# Altium footprint library Small Outline (~0.8mm Pitch).PcbLib: 18 footprints (part 2 of 2)
Each footprint in its own frame and in the unit in brackets; x right, y up, seen from the top. Pads: shape width x height; smd on the part's side, far side on the other; paste and mask are expansions set on the pad; w line width, h text height; cw(c..) or ccw(c..) is an arc to the next point about the centre after c.
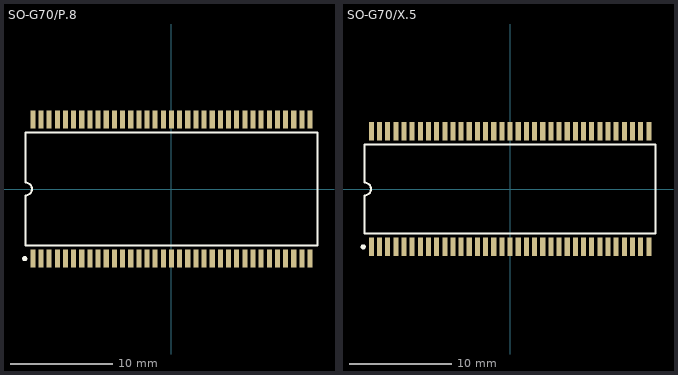
[diagram p1: the footprints below, top view; thin cyan lines are the x and y axes]

## SO-G70/P.8 [mm] "Small Outline; 70 Leads; Body Width 12.7 mm; Pitch 0.8 mm"
height 1.2
pads (70):
  rect 0.5x1.75 smd: 1(-13.6,-6.825) 2(-12.8,-6.825) 3(-12,-6.825) 4(-11.2,-6.825) 5(-10.4,-6.825) 6(-9.6,-6.825) 7(-8.8,-6.825) 8(-8,-6.825) 9(-7.2,-6.825) 10(-6.4,-6.825) 11(-5.6,-6.825) 12(-4.8,-6.825) 13(-4,-6.825) 14(-3.2,-6.825) 15(-2.4,-6.825) 16(-1.6,-6.825) 17(-0.8,-6.825) 18(0,-6.825) 19(0.8,-6.825) 20(1.6,-6.825) 21(2.4,-6.825) 22(3.2,-6.825) 23(4,-6.825) 24(4.8,-6.825) 25(5.6,-6.825) 26(6.4,-6.825) 27(7.2,-6.825) 28(8,-6.825) 29(8.8,-6.825) 30(9.6,-6.825) 31(10.4,-6.825) 32(11.2,-6.825) 33(12,-6.825) 34(12.8,-6.825) 35(13.6,-6.825) 36(13.6,6.825) 37(12.8,6.825) 38(12,6.825) 39(11.2,6.825) 40(10.4,6.825) 41(9.6,6.825) 42(8.8,6.825) 43(8,6.825) 44(7.2,6.825) 45(6.4,6.825) 46(5.6,6.825) 47(4.8,6.825) 48(4,6.825) 49(3.2,6.825) 50(2.4,6.825) 51(1.6,6.825) 52(0.8,6.825) 53(0,6.825) 54(-0.8,6.825) 55(-1.6,6.825) 56(-2.4,6.825) 57(-3.2,6.825) 58(-4,6.825) 59(-4.8,6.825) 60(-5.6,6.825) 61(-6.4,6.825) 62(-7.2,6.825) 63(-8,6.825) 64(-8.8,6.825) 65(-9.6,6.825) 66(-10.4,6.825) 67(-11.2,6.825) 68(-12,6.825) 69(-12.8,6.825) 70(-13.6,6.825)
Top Overlay:
  circle w0.25: c-14.4,-6.825 r0.125
  lines w0.2: -14.325,-5.55 14.325,-5.55 14.325,5.55 -14.325,5.55 -14.325,0.635 cw(c-14.325,0) -14.325,-0.635 -14.325,-5.55

## SO-G70/X.5 [mm] "Small Outline; 70 Leads; Body Width 10.16 mm; Pitch 0.8 mm"
height 1.2
pads (70):
  rect 0.5x1.8 smd: 1(-13.6,-5.675) 2(-12.8,-5.675) 3(-12,-5.675) 4(-11.2,-5.675) 5(-10.4,-5.675) 6(-9.6,-5.675) 7(-8.8,-5.675) 8(-8,-5.675) 9(-7.2,-5.675) 10(-6.4,-5.675) 11(-5.6,-5.675) 12(-4.8,-5.675) 13(-4,-5.675) 14(-3.2,-5.675) 15(-2.4,-5.675) 16(-1.6,-5.675) 17(-0.8,-5.675) 18(0,-5.675) 19(0.8,-5.675) 20(1.6,-5.675) 21(2.4,-5.675) 22(3.2,-5.675) 23(4,-5.675) 24(4.8,-5.675) 25(5.6,-5.675) 26(6.4,-5.675) 27(7.2,-5.675) 28(8,-5.675) 29(8.8,-5.675) 30(9.6,-5.675) 31(10.4,-5.675) 32(11.2,-5.675) 33(12,-5.675) 34(12.8,-5.675) 35(13.6,-5.675) 36(13.6,5.675) 37(12.8,5.675) 38(12,5.675) 39(11.2,5.675) 40(10.4,5.675) 41(9.6,5.675) 42(8.8,5.675) 43(8,5.675) 44(7.2,5.675) 45(6.4,5.675) 46(5.6,5.675) 47(4.8,5.675) 48(4,5.675) 49(3.2,5.675) 50(2.4,5.675) 51(1.6,5.675) 52(0.8,5.675) 53(0,5.675) 54(-0.8,5.675) 55(-1.6,5.675) 56(-2.4,5.675) 57(-3.2,5.675) 58(-4,5.675) 59(-4.8,5.675) 60(-5.6,5.675) 61(-6.4,5.675) 62(-7.2,5.675) 63(-8,5.675) 64(-8.8,5.675) 65(-9.6,5.675) 66(-10.4,5.675) 67(-11.2,5.675) 68(-12,5.675) 69(-12.8,5.675) 70(-13.6,5.675)
Top Overlay:
  circle w0.25: c-14.4,-5.675 r0.125
  lines w0.2: -14.275,-4.375 -14.275,-0.635 ccw(c-14.275,0) -14.275,0.635 -14.275,4.375 14.275,4.375 14.275,-4.375 -14.275,-4.375